# EAGLE library part CORTEX52 (library coxtex32)
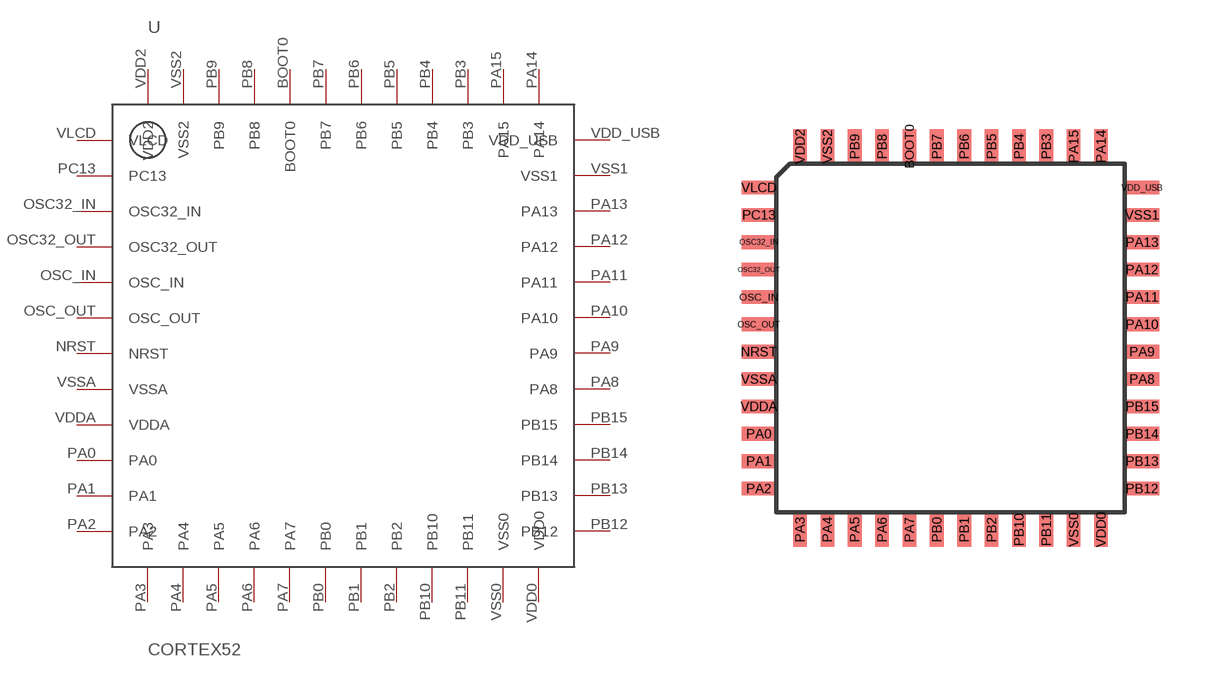
[diagram p0: symbol with the pads of CORTEX52; footprint CORTEX52]

Designator prefix -

## CORTEX52  [CORTEX52]
BOOT0  BOOT0
NRST  NRST
OSC32_IN  OSC32_IN
OSC32_OUT  OSC32_OUT
OSC_IN  OSC_IN
OSC_OUT  OSC_OUT
PA0  PA0
PA1  PA1
PA2  PA2
PA3  PA3
PA4  PA4
PA5  PA5
PA6  PA6
PA7  PA7
PA8  PA8
PA9  PA9
PA10  PA10
PA11  PA11
PA12  PA12
PA13  PA13
PA14  PA14
PA15  PA15
PB0  PB0
PB1  PB1
PB2  PB2
PB3  PB3
PB4  PB4
PB5  PB5
PB6  PB6
PB7  PB7
PB8  PB8
PB9  PB9
PB10  PB10
PB11  PB11
PB12  PB12
PB13  PB13
PB14  PB14
PB15  PB15
PC13  PC13
VDD0  VDD0
VDD2  VDD2
VDD_USB  VDD_USB
VDDA  VDDA
VLCD  VLCD
VSS0  VSS0
VSS1  VSS1
VSS2  VSS2
VSSA  VSSA

## Footprint CORTEX52 (pad centres in mm)
smd 0.4 x 1: BOOT0 3.9,11.5; PA3 0.7,0.3; PA4 1.5,0.3; PA5 2.3,0.3; PA6 3.1,0.3; PA7 3.9,0.3; PA14 9.5,11.5; PA15 8.7,11.5; PB0 4.7,0.3; PB1 5.5,0.3; PB2 6.3,0.3; PB3 7.9,11.5; PB4 7.1,11.5; PB5 6.3,11.5; PB6 5.5,11.5; PB7 4.7,11.5; PB8 3.1,11.5; PB9 2.3,11.5; PB10 7.1,0.3; PB11 7.9,0.3; VDD0 9.5,0.3; VDD2 0.7,11.5; VSS0 8.7,0.3; VSS2 1.5,11.5
smd 1 x 0.4: NRST -0.5,5.5; OSC32_IN -0.5,8.7; OSC32_OUT -0.5,7.9; OSC_IN -0.5,7.1; OSC_OUT -0.5,6.3; PA0 -0.5,3.1; PA1 -0.5,2.3; PA2 -0.5,1.5; PA8 10.7,4.7; PA9 10.7,5.5; PA10 10.7,6.3; PA11 10.7,7.1; PA12 10.7,7.9; PA13 10.7,8.7; PB12 10.7,1.5; PB13 10.7,2.3; PB14 10.7,3.1; PB15 10.7,3.9; PC13 -0.5,9.5; VDD_USB 10.7,10.3; VDDA -0.5,3.9; VLCD -0.5,10.3; VSS1 10.7,9.5; VSSA -0.5,4.7